# EAGLE library part HEADER_12P (library Public)
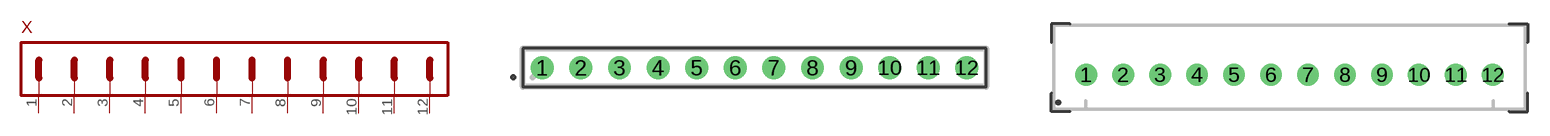
[diagram p56: symbol with the pads of HEADER_12P_1ROW_RM2.54MM_THT; footprints HEADER_12P_1ROW_RM2.54MM_THT, JST-XH_12]

Designator prefix X

## HEADER_12P(RM2.54MM_1ROW_THT)  [HEADER_12P_1ROW_RM2.54MM_THT]
1  PIN1
2  PIN2
3  PIN3
4  PIN4
5  PIN5
6  PIN6
7  PIN7
8  PIN8
9  PIN9
10  PIN10
11  PIN11
12  PIN12

## HEADER_12P(JST-XH)  [JST-XH_12]
Pads as for HEADER_12P_1ROW_RM2.54MM_THT

## HEADER_12P(DEUTSCH-DT)  [DT15-12P]
Pads as for HEADER_12P_1ROW_RM2.54MM_THT

## HEADER_12P(MOLEX_MICROFIT_3.0_HORIZONTAL) (ID: 43045-1200)  [MOLEX_MICROFIT_3.0_43045-1200]
Pads as for HEADER_12P_1ROW_RM2.54MM_THT

## Footprint HEADER_12P_1ROW_RM2.54MM_THT (pad centres in mm)
drill 1: 1 -13.97,0; 2 -11.43,0; 3 -8.89,0; 4 -6.35,0; 5 -3.81,0; 6 -1.27,0; 7 1.27,0; 8 3.81,0; 9 6.35,0; 10 8.89,0; 11 11.43,0; 12 13.97,0

## Footprint JST-XH_12 (pad centres in mm)
drill 1: 1 -13.97,0; 2 -11.43,0; 3 -8.89,0; 4 -6.35,0; 5 -3.81,0; 6 -1.27,0; 7 1.27,0; 8 3.81,0; 9 6.35,0; 10 8.89,0; 11 11.43,0; 12 13.97,0

## Footprint DT15-12P (pad centres in mm)
drill 1.88: 1 -4.56,-11.11; 2 -4.56,-6.67; 3 -4.56,-2.22; 4 -4.56,2.22; 5 -4.56,6.67; 6 -4.56,11.11; 7 4.56,-11.11; 8 4.56,-6.67; 9 4.56,-2.22; 10 4.56,2.22; 11 4.56,6.67; 12 4.56,11.11
hole 3.5 at -10.67,17.54
hole 3.5 at 10.67,17.54
hole 3.5 at -10.67,-17.54
hole 3.5 at 10.67,-17.54

## Footprint MOLEX_MICROFIT_3.0_43045-1200 (pad centres in mm)
drill 1.1: 1 7.5,-1.5; 2 4.5,-1.5; 3 1.5,-1.5; 4 -1.5,-1.5; 5 -4.5,-1.5; 6 -7.5,-1.5; 7 7.5,1.5; 8 4.5,1.5; 9 1.5,1.5; 10 -1.5,1.5; 11 -4.5,1.5; 12 -7.5,1.5
hole 3 at -5.35,-5.82
hole 3 at 5.35,-5.82